# Altium schematic symbol library SCH - POWER - VOLTAGE REFERENCES - TI REF60XX.SchLib: 1 symbol
Pins are listed as number, name and electrical type; pins without a type are passive.

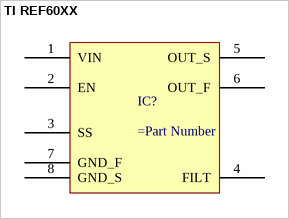
[diagram p0: symbol TI REF60XX]

## TI REF60XX
designator IC?
pins: 1 VIN, 2 EN, 3 SS, 4 FILT, 5 OUT_S, 6 OUT_F, 7 GND_F, 8 GND_S